# Altium integrated library toilet-sensing-v0.1.IntLib: 15 symbols
Pins are listed as number, name and electrical type; pins without a type are passive.

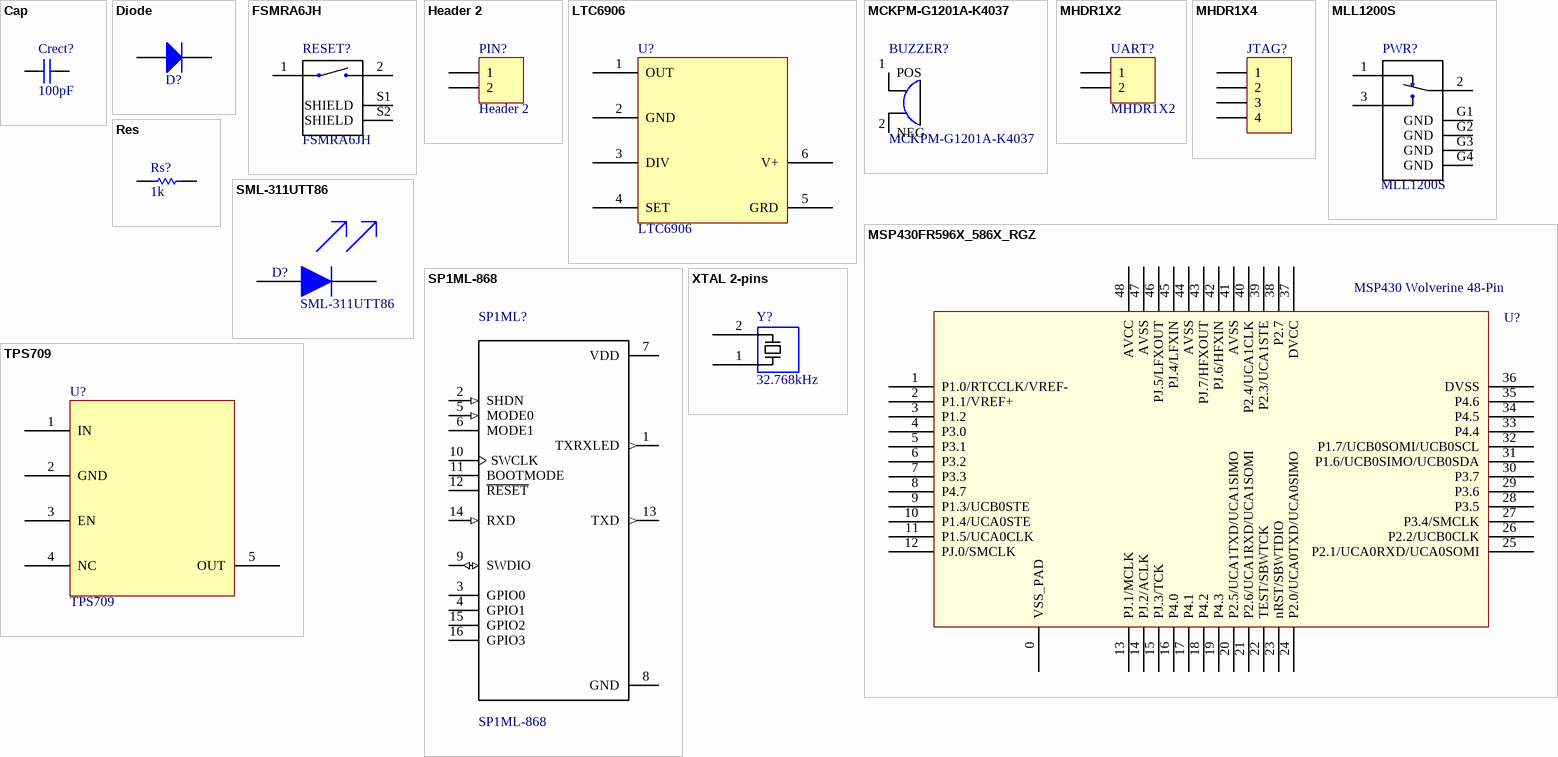
[diagram p0: symbols Cap to XTAL 2-pins]

## Cap
designator Crect?  value 100pF  (hidden comment: Cap)
Ceramic Capacitor (Surface Mount); Manufacturer: Generic Ceramic Chip Cap (TBD); Digi-Key Part Number: *; Manufacturer Part Number: *; Note: *; Rating: *
footprint 0402 (Surface Mount; Body 1 x 0.5 mm (LxW typ))
footprint 0402-W (Surface Mount - Wide; Body 1.0 x 0.5 mm (LxW typ))
footprint 0603 (Surface Mount; Body 1.6 x 0.8 mm (LxW typ))
footprint 0603-W (Surface Mount - Wide; Body 1.6 x 0.8 mm (LxW typ))
footprint 0805 (Surface Mount; Body 2.0 x 1.25 mm (LxW typ))
footprint 0805-W (Surface Mount - Wide; Body 2.0 x 1.25 mm (LxW typ))
footprint 1206 (Surface Mount; Body 3.2 x 1.6 mm (LxW typ))
footprint 1206-W (Surface Mount - Wide; Body 3.2 x 1.6 mm (LxW typ))
footprint 1210 (Surface Mount; Body 3.2 x 2.5 mm (LxW typ))
footprint 1210-W (Chip Capacitor; Body 3.2 x 2.5 mm (LxW typ))
pins: 1, 2

## Diode
designator D?  (value not drawn)
General Purpose Diode; Manufacturer: *; Manufacturer Part Number: *; Digi-Key Part Number: *; Value: *; Rating: *; Note: *
footprint Diode - SOD128 (Diode: Body 1.6 x 0.8 mm (LxW typ))
footprint DIODE - SOD123 (SOD-123; 2 Leads; Body 2.7 x 1.6 mm, (LxW))
footprint SOD-523 (SOD-523 Footprint)
pins: 1 A, 2 C

## FSMRA6JH
designator RESET?
Switch, Tactile, Spno, r/a; MF: TE Connectivity; MP: FSMRA6JH; Price: 0.10 USD; Availability: Good; Package: None; Value: *
footprint TE_FSMRA6JH_FSMRA6JH(Primary)
pins: 1, 2, S1 SHIELD, S2 SHIELD

## Header 2
designator PIN?
Header, 2-Pin; LatestRevisionDate: 17-Jul-2002; LatestRevisionNote: Re-released for DXP Platform.; Publisher: Altium Limited
footprint HDR1X2 (Connector; Header; 2 Position)
signal-integrity model Connector
pins: 1, 2

## LTC6906
designator U?
LP Oscilloter
footprint 6-Lead Plastic TSOT-23 (TSOP, 6-Leads, Body 2.90x1.63mm, Pitch 0.95mm, IPC Medium Density)
pins: 1 OUT "Oscillator Output", 2 GND "Ground", 3 DIV "Divier Setting Input", 4 SET "Frequency Setting Resistor Input", 5 GRD "Guard Signal", 6 V+ "Voltage Supply"

## MCKPM-G1201A-K4037
designator BUZZER?
Magnetic Buzzer And Transducer; MF: Multicomp; Availability: Unavailable; Package: None; MP: MCKPM-G1201A-K4037; Price: 0.24 USD; Value: *
footprint XDCR_MCKPM-G1201A-K4037
pins: 1 POS, 2 NEG

## MHDR1X2
designator UART?
Header, 2-Pin; LatestRevisionDate: 17-Jul-2002; LatestRevisionNote: Re-released for DXP Platform.; Publisher: Altium Limited
footprint MHDR1X2 (Connector; Header; 2 Position)
signal-integrity model Connector
pins: 1, 2

## MHDR1X4
designator JTAG?  (value not drawn)
Header, 4-Pin; LatestRevisionDate: 17-Jul-2002; LatestRevisionNote: Re-released for DXP Platform.; Publisher: Altium Limited
footprint MHDR1X4 (Connector; Header; 4 Position)
signal-integrity model Connector
pins: 1, 2, 3, 4

## MLL1200S
designator PWR?
SWITCH SLIDE SPDT 300MA 4V; MF: TE; MP: MLL1200S; Price: 1.57 USD; Availability: Good; Package: None; Value: *
footprint SW_MLL1200S_MLL1200S(Primary)
pins: 1, 2, 3, G1 GND (power), G2 GND (power), G3 GND (power), G4 GND (power)

## MSP430FR596X_586X_RGZ
designator U?, comment MSP430 Wolverine 48-Pin
16-bit FRAM MCU
footprint MSP_QFN48_RGZ_PAD0
pins: 0 VSS_PAD, 1 P1.0/RTCCLK/VREF-, 2 P1.1/VREF+, 3 P1.2, 4 P3.0, 5 P3.1, 6 P3.2, 7 P3.3, 8 P4.7, 9 P1.3/UCB0STE, 10 P1.4/UCA0STE, 11 P1.5/UCA0CLK, 12 PJ.0/SMCLK, 13 PJ.1/MCLK, 14 PJ.2/ACLK, 15 PJ.3/TCK, 16 P4.0, 17 P4.1, 18 P4.2, 19 P4.3, 20 P2.5/UCA1TXD/UCA1SIMO, 21 P2.6/UCA1RXD/UCA1SOMI, 22 TEST/SBWTCK, 23 nRST/SBWTDIO, 24 P2.0/UCA0TXD/UCA0SIMO, 25 P2.1/UCA0RXD/UCA0SOMI, 26 P2.2/UCB0CLK, 27 P3.4/SMCLK, 28 P3.5, 29 P3.6, 30 P3.7, 31 P1.6/UCB0SIMO/UCB0SDA, 32 P1.7/UCB0SOMI/UCB0SCL, 33 P4.4, 34 P4.5, 35 P4.6, 36 DVSS, 37 DVCC, 38 P2.7, 39 P2.3/UCA1STE, 40 P2.4/UCA1CLK, 41 AVSS, 42 PJ.6/HFXIN, 43 PJ.7/HFXOUT, 44 AVSS, 45 PJ.4/LFXIN, 46 PJ.5/LFXOUT, 47 AVSS, 48 AVCC

## Res
designator Rs?  value 1k  (hidden comment: Res)
Chip Resistor (Surface Mount); Manufacturer: Generic Chip Res (TBD); Manufacturer Part Number: *; Digi-Key Part Number: *; Rating: *
footprint 0402 (Surface Mount; Body 1 x 0.5 mm (LxW typ))
footprint 0402-W (Surface Mount - Wide; Body 1.0 x 0.5 mm (LxW typ))
footprint 0603 (Surface Mount; Body 1.6 x 0.8 mm (LxW typ))
footprint 0603-W (Surface Mount - Wide; Body 1.6 x 0.8 mm (LxW typ))
footprint 0805 (Surface Mount; Body 2.0 x 1.25 mm (LxW typ))
footprint 0805-W (Surface Mount - Wide; Body 2.0 x 1.25 mm (LxW typ))
footprint 1206 (Surface Mount; Body 3.2 x 1.6 mm (LxW typ))
footprint 1206-W (Surface Mount - Wide; Body 3.2 x 1.6 mm (LxW typ))
footprint 1210 (Surface Mount; Body 3.2 x 2.5 mm (LxW typ))
footprint 1210-W (Chip Capacitor; Body 3.2 x 2.5 mm (LxW typ))
pins: 1, 2

## SML-311UTT86
designator D?
LED 630NM RED WTR CLR 0603 SMD
footprint 0603 (Chip Capacitor; Body 1.6 x 0.8 mm (LxW typ))
pins: 1, 2

## SP1ML-868
designator SP1ML?
RF TXRX MODULE ISM<1GHZ CHIP ANT; MF: STMicroelectronics; Availability: Good; MP: SP1ML-868; Price: 16.88 USD; Package: SMD-16 STMicroelectronics; Value: *
footprint STM_SP1ML-868
pins: 1 TXRXLED (out), 2 SHDN (in), 3 GPIO0, 4 GPIO1, 5 MODE0 (in), 6 MODE1, 7 VDD (power), 8 GND, 9 SWDIO (io), 10 SWCLK, 11 BOOTMODE, 12 ~{RESET}, 13 TXD (out), 14 RXD (in), 15 GPIO2, 16 GPIO3

## TPS709
designator U?
Ultra low power Voltage Regulator
footprint SOT95P280X145-5N (SOT23, 5-Leads, Body 2.90x2.80mm, Pitch 0.95mm, IPC Medium Density)
pins: 1 IN, 2 GND, 3 EN, 4 NC, 5 OUT

## XTAL 2-pins
designator Y?, comment value 32.768kHz  (hidden comment: XTAL)
Crystal Oscillator - [3.20mm x 1.50mm]; Manufacturer: Epson Toyocom Corporation; Manufacturer Part Number: FC-135 32.7680KA-A3; Digi-Key Part Number: example: SE2413CT-ND
footprint XTAL [3.20mm x 1.50mm] (FC-135   crystal - epson eletronics)
pins: 1 (power) "Output", 2 (power) "Output"